# Altium footprint library Freezer_Power.PcbLib: 40 footprints (part 2 of 3)
Each footprint in its own frame and in the unit in brackets; x right, y up, seen from the top. Pads: shape width x height; smd on the part's side, far side on the other; paste and mask are expansions set on the pad; w line width, h text height; cw(c..) or ccw(c..) is an arc to the next point about the centre after c.
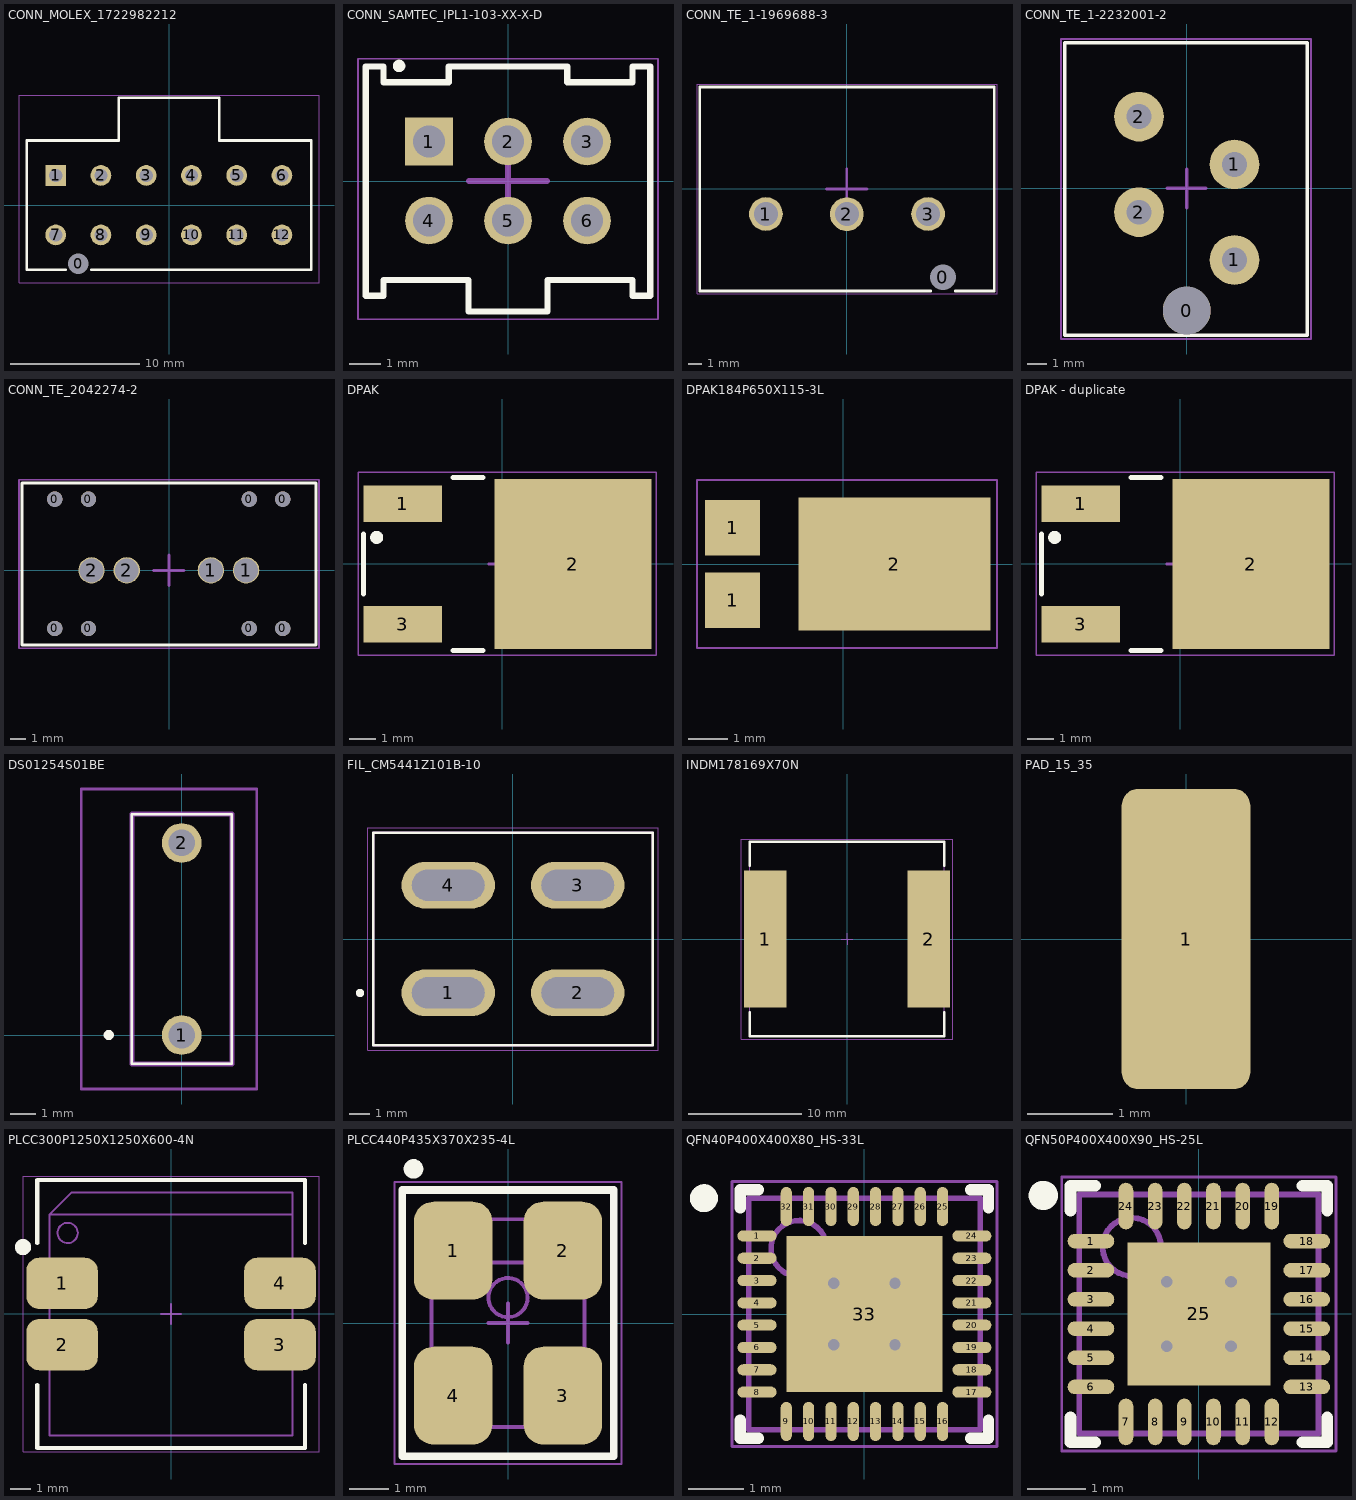
[diagram p1: the footprints below, top view; thin cyan lines are the x and y axes]

## CONN_MOLEX_1722982212 [mm]
height 14
pads (13):
  round 1.5 hole 1.6 unplated: 0(-7.013,-4.53)
  rect 1.6x1.6 hole 1.02: 1(-8.763,2.3)
  round 1.6 hole 1.02: 2(-5.263,2.3) 3(-1.763,2.3) 4(1.737,2.3) 5(5.237,2.3) 6(8.737,2.3) 7(-8.763,-2.3) 8(-5.263,-2.3) 9(-1.763,-2.3) 10(1.737,-2.3) 11(5.237,-2.3) 12(8.737,-2.3)
Top Overlay:
  lines w0.2: -8,-5 -11,-5 -11,5 -3.9,5 -3.9,8.31 ; -6,-5 11,-5 11,5 3.9,5 3.9,8.31 ; -3.9,8.31 3.9,8.31 ; -3.9,8.31 3.9,8.31
Top Courtyard:
  lines w0.05: -11.6,-6 11.6,-6 11.6,8.5 -11.6,8.5 -11.6,-6
Top Designator:
  text ".Designator" at -2.265,-0.239 h1
3D body "1722982212.stp": height 14.01, standoff -3.19, extent -11.512,-5.932 11.488,7.978

## CONN_SAMTEC_IPL1-103-XX-X-D [mm]
height 8.13
pads (6):
  rect 1.53x1.53 hole 1.02: 1(-2.54,1.27)
  round 1.53 hole 1.02: 2(0,1.27) 3(2.54,1.27) 4(-2.54,-1.27) 5(0,-1.27) 6(2.54,-1.27)
Top Overlay:
  circle w0.2: c-3.5,3.7 r0.1
  lines w0.2: -4.57,-3.685 -4.57,3.685 -4,3.685 -4,3.175 -1.905,3.175 -1.905,3.685 1.905,3.685 1.905,3.175 4,3.175 4,3.685 4.57,3.685 4.57,-3.685 4,-3.685 4,-3.175 1.27,-3.175 1.27,-4.195 -1.27,-4.195 -1.27,-3.175 -4,-3.175 -4,-3.685 -4.57,-3.685
Top Component Center:
  lines w0.2: -1.25,0 1.25,0 ; 0,-1.25 0,1.25
Top Courtyard:
  lines w0.05: -4.82,-4.445 -4.82,3.935 4.82,3.935 4.82,-4.445 -4.82,-4.445
  lines w0.2: -1.25,0 1.25,0 ; 0,-1.25 0,1.25
Top Designator:
  text ".Designator" at -2.265,-0.239 h1
3D body "IPL1-103-01-L-D-K.stp": height 8.14, standoff -3.04, extent -4.572,-4.191 4.572,3.683

## CONN_TE_1-1969688-3 [mm]
height 18.3
pads (4):
  round 1.8 hole 1.9 unplated mask+0.102: 0(7.113,-6.54)
  round 2.5 hole 1.78: 1(-5.987,-1.85) 2(0,-1.863) 3(6.013,-1.85)
Top Overlay:
  lines w0.2: 6.213,-7.55 -10.887,-7.55 -10.887,7.55 10.913,7.55 10.913,-7.55 8.013,-7.55
Top Component Center:
  lines w0.2: -1.5,0 1.5,0 ; 0,-1.5 0,1.5
Top Courtyard:
  lines w0.05: -11.087,-7.75 11.113,-7.75 11.113,7.75 -11.087,7.75 -11.087,-7.75
  lines w0.2: -1.5,0 1.5,0 ; 0,-1.5 0,1.5
Top Designator:
  lines w0.2: -1.5,0 1.5,0 ; 0,-1.5 0,1.5
  text ".Designator" at -2.252,-0.226 h1
3D body "c-1-1969688-3-b-3d.stp": height 18.31, standoff -3.32, extent -10.837,-7.465 10.863,7.485

## CONN_TE_1-2232001-2 [mm]
pads (5):
  round 2.5 hole 2.5 unplated: 0(-0.013,-6.413)
  round 2.6 hole 1.3: 1(2.487,-3.763) 1(2.487,1.237) 2(-2.513,-1.263) 2(-2.513,3.737)
Top Overlay:
  lines w0.2: -6.4,-7.7 6.3,-7.7 6.3,7.6 -6.4,7.6 -6.4,-7.7
Top Component Center:
  lines w0.2: -1.013,-0.013 0.987,-0.013 ; -0.013,-1.013 -0.013,0.987
Top Courtyard:
  lines w0.1: -6.6,-7.9 6.5,-7.9 6.5,7.8 -6.6,7.8 -6.6,-7.9
Top Designator:
  text ".Designator" at -2.265,-0.239 h1
3D body "1-2232001-2.stp": height 12.81, standoff -3.49, extent -6.163,-7.513 6.137,7.437

## CONN_TE_2042274-2 [mm]
height 11.1
pads (12):
  round 1 hole 1 unplated: 0(-7.46,-3.813) 0(-7.46,4.637) 0(-5.266,4.637) 0(-5.265,-3.813) 0(5.24,4.637) 0(5.24,-3.813) 0(7.434,-3.813) 0(7.434,4.637)
  round 1.72 hole 1.56: 1(2.737,-0.013) 1(5.037,-0.013) 2(-5.063,-0.013) 2(-2.763,-0.013)
Top Overlay:
  lines w0.2: -9.6,-4.9 9.6,-4.9 9.6,5.7 -9.6,5.7 -9.6,-4.9
Top Component Center:
  lines w0.2: -1.013,-0.013 0.987,-0.013 ; -0.013,-1.013 -0.013,0.987
Top Courtyard:
  lines w0.1: -9.8,-5.1 9.8,-5.1 9.8,5.9 -9.8,5.9 -9.8,-5.1
Top Designator:
  text ".Designator" at -2.265,-0.239 h1
3D body "c-2042274-2-b-3d.stp": height 11.16, standoff -2.89, extent -9.463,-4.737 9.437,5.562

## DPAK [mm]
pads (3):
  rect 3x1.4 smd: 1(-3.793,2.287) 3(-3.793,-2.313)
  rect 6x6.5 smd: 2(2.707,-0.013)
Top Overlay:
  circle w0.25: c-4.786,1.003 r0.125
  lines w0.2: -5.294,-1.156 -5.294,1.13 ; -1.865,-3.315 -0.722,-3.315 ; -1.865,3.289 -0.722,3.289
Top Component Center:
  lines w0.1: -0.513,-0.013 0.487,-0.013 ; -0.013,-0.513 -0.013,0.487
Top Courtyard:
  lines w0.05: -5.5,-3.5 -5.5,3.5 5.9,3.5 5.9,-3.5 -5.5,-3.5
  lines w0.1: -0.513,-0.013 0.487,-0.013 ; -0.013,-0.513 -0.013,0.487
Top Designator:
  text ".Designator" at -2.265,-0.239 h1
Mechanical 15:
  lines w0.1: 2.207,-0.013 3.207,-0.013 ; 2.707,-0.513 2.707,0.487
3D body "TO-252AA.stp": height 2.41, standoff 0.01, extent -5.033,-3.315 5.367,3.362

## DPAK184P650X115-3L [mm] "TO, 3-Pads, Body 5.83x5.39mm (max), IPC High Density"
height 1.15
pads (3):
  rect 1.4x1.4 smd: 1(-2.8,-0.92) 1(-2.8,0.92)
  rect 4.86x3.36 smd: 2(1.3,0)
Top Courtyard:
  lines w0.05: -3.7,-2.125 3.9,-2.125 3.9,2.125 -3.7,2.125 -3.7,-2.125
  lines w0.1: -0.5,0 0.5,0 ; 0,-0.5 0,0.5
Top Designator:
  text ".Designator" at -2.252,-0.226 h1
3D body "DPAK184P650X115-3L.step": height 1.15, standoff 0, extent -3.05,-2.025 3.2,2.025

## DPAK - duplicate [mm]
pads (3):
  rect 3x1.4 smd: 1(-3.793,2.287) 3(-3.793,-2.313)
  rect 6x6.5 smd: 2(2.707,-0.013)
Top Overlay:
  circle w0.25: c-4.786,1.003 r0.125
  lines w0.2: -5.294,-1.156 -5.294,1.13 ; -1.865,-3.315 -0.722,-3.315 ; -1.865,3.289 -0.722,3.289
Top Component Center:
  lines w0.1: -0.513,-0.013 0.487,-0.013 ; -0.013,-0.513 -0.013,0.487
Top Courtyard:
  lines w0.05: -5.5,-3.5 5.9,-3.5 5.9,3.5 -5.5,3.5 -5.5,-3.5
  lines w0.1: -0.513,-0.013 0.487,-0.013 ; -0.013,-0.513 -0.013,0.487
Top Designator:
  text ".Designator" at -2.265,-0.239 h1
Mechanical 15:
  lines w0.1: 2.207,-0.013 3.207,-0.013 ; 2.707,-0.513 2.707,0.487
3D body "TO-252AA.stp": height 2.41, standoff 0.01, extent -5.033,-3.315 5.367,3.362

## DS01254S01BE [mm]
pads (2):
  round 1.575 hole 1.05: 1(0,0) 2(0,7.62)
Top Overlay:
  lines w0.1: -1.98,-1.14 -1.98,8.76 1.98,8.76 1.98,-1.14 -1.98,-1.14
  lines w0.2: -3,0 cw(c-2.9,0) -2.8,0 cw(c-2.9,0) -3,0
Top 3D Body:
  lines w0.2: -1.98,-1.14 -1.98,8.76 1.98,8.76 1.98,-1.14 -1.98,-1.14
Mechanical 15:
  lines w0.1: -4,-2.14 -4,9.76 ; -4,-2.14 2.98,-2.14 ; -4,-2.14 -4,9.76 ; -4,-2.14 2.98,-2.14 ; -4,9.76 2.98,9.76 ; -4,9.76 2.98,9.76 ; 2.98,-2.14 2.98,9.76 ; 2.98,-2.14 2.98,9.76
3D body "DS01-254-S-01BE.stp": height 6.53, standoff -3.03, extent -2.005,-1.1 1.955,8.8

## FIL_CM5441Z101B-10 [mm] "Common mode choke 38.5 x 26.5 x 35 with 20.5 x 24.5 lead spacing and 1.6mm wire diameter."
height 27.5
pads (4):
  oval 4.58x2.29 hole 1.52 slot 3.56 at 0 deg: 1(-3.175,-2.64) 2(3.175,-2.64) 3(3.175,2.64) 4(-3.175,2.64)
Top Overlay:
  circle w0.2: c-7.5,-2.64 r0.1
  lines w0.127: -6.86,-5.205 -6.86,5.205 6.86,5.205 6.86,-5.205 -6.86,-5.205
Top 3D Body:
  circle w0.2: c-7.5,-2.64 r0.1
  lines w0.127: -6.86,-5.205 -6.86,5.205 6.86,5.205 6.86,-5.205 -6.86,-5.205
Mechanical 15:
  lines w0.05: -7.11,-5.455 7.11,-5.455 7.11,5.455 -7.11,5.455 -7.11,-5.455
3D body "step_temp.STEP": height 10.77, standoff -3.38, extent -6.86,-5.205 6.86,5.205

## INDM178169X70N [mm] "Molded Inductor, 2-Leads, Body 17.80x16.90mm, IPC Medium Density"
height 7
pads (2):
  rect 3.75x12.1 smd: 1(-7.225,0) 2(7.225,0)
Top Overlay:
  lines w0.2: -8.6,-6.45 -8.6,-8.6 8.6,-8.6 8.6,-6.45 ; -8.6,6.45 -8.6,8.6 8.6,8.6 8.6,6.45
Top Assembly:
  lines w0.1: -8.6,-8.6 -8.6,8.6 8.6,8.6 8.6,-8.6 -8.6,-8.6
Top Component Center:
  lines w0.1: -0.5,0 0.5,0 ; 0,-0.5 0,0.5
Top Courtyard:
  lines w0.05: -9.35,-8.85 -9.35,8.85 9.35,8.85 9.35,-8.85 -9.35,-8.85
  lines w0.1: -0.5,0 0.5,0 ; 0,-0.5 0,0.5
Top Designator:
  text ".Designator" at -15.395,-2.399 h1
3D body "INDM169169X70N.step": height 7, standoff 0, extent -8.82,-8.6 8.82,8.6

## PAD_15_35 [mm] "Solder pad 1.5mmx3.5mm"
height 27.5
pads (1):
  rrect25% 1.5x3.5 smd mask+0.051: 1(0,0)
3D body: height 0.05, standoff 0, extent -0.75,-1.751 0.75,1.75

## PLCC300P1250X1250X600-4N [mm] "Leaded Chip Carrier, 4-Leads, Body 12.50x12.50mm, Pitch 3.000mm, IPC Medium Density"
height 6
pads (4):
  rrect50% 3.53x2.54 smd: 1(-5.375,1.51) 2(-5.375,-1.51) 3(5.375,-1.51) 4(5.375,1.51)
Top Overlay:
  circle w0.4: c-7.3,3.3 r0.2
  lines w0.2: -6.6,-3.5 -6.6,-6.6 6.6,-6.6 6.6,-3.5 ; -6.6,3.5 -6.6,6.6 6.6,6.6 6.6,3.5
Top Component Center:
  lines w0.1: -0.5,0 0.5,0 ; 0,-0.5 0,0.5
Top Courtyard:
  lines w0.05: -7.3,-6.8 -7.3,6.8 7.3,6.8 7.3,-6.8 -7.3,-6.8
  lines w0.1: -0.5,0 0.5,0 ; 0,-0.5 0,0.5
Top Designator:
  text ".Designator" at -10.297,-1.633 h1
Top 3D Body:
  circle w0.1: c-5.1,4 r0.5
  lines w0.1: 6,4.9 -6,4.9 ; -6,4.9 -6,-6 6,-6 6,6 -4.9,6 -6,4.9
3D body "PLCC300P1250X1250X600-6N.step": height 6, standoff 0, extent -6.45,-6.45 6.45,6.45

## PLCC440P435X370X235-4L [mm] "Leaded Chip Carrier, 4-Leads, Body 4.35x3.70mm, Pitch 4.400mm, IPC High Density"
height 2.35
pads (4):
  rrect50% 2x2.5 smd: 1(-1.4,1.852) 2(1.4,1.852) 3(1.4,-1.852) 4(-1.4,-1.852)
Top Overlay:
  circle w0.25: c-2.413,3.937 r0.125
  lines w0.2: -2.7,-3.4 -2.7,3.4 2.7,3.4 2.7,-3.4 -2.7,-3.4
Top Courtyard:
  lines w0.05: -2.9,-3.6 2.9,-3.6 2.9,3.6 -2.9,3.6 -2.9,-3.6
  lines w0.1: -0.5,0 0.5,0 ; 0,-0.5 0,0.5
Top Designator:
  text ".Designator" at -1.173,7.544 h1
Top 3D Body:
  circle w0.1: c0,0.65 r0.5
  lines w0.1: 1.95,1.55 -1.95,1.55 ; -1.95,1.55 -0.85,2.65 1.95,2.65 1.95,-2.65 -1.95,-2.65 -1.95,1.55
3D body "PLCC440P435X370X235-4L.step": height 2.35, standoff 0, extent -2.375,-2.65 2.375,2.65

## QFN40P400X400X80_HS-33L [mm] "QFN, 32-Leads, Body 4.00x4.00mm, Pitch 0.40mm, Thermal Pad 2.80x2.80mm, IPC High Density"
height 0.8
pads (33):
  oval 0.7x0.2 smd mask+0.051: 1(-1.925,1.4) 2(-1.925,1) 3(-1.925,0.6) 4(-1.925,0.2) 5(-1.925,-0.2) 6(-1.925,-0.6) 7(-1.925,-1) 8(-1.925,-1.4) 17(1.925,-1.4) 18(1.925,-1) 19(1.925,-0.6) 20(1.925,-0.2) 21(1.925,0.2) 22(1.925,0.6) 23(1.925,1) 24(1.925,1.4)
  oval 0.2x0.7 smd mask+0.051: 9(-1.4,-1.925) 10(-1,-1.925) 11(-0.6,-1.925) 12(-0.2,-1.925) 13(0.2,-1.925) 14(0.6,-1.925) 15(1,-1.925) 16(1.4,-1.925) 25(1.4,1.925) 26(1,1.925) 27(0.6,1.925) 28(0.2,1.925) 29(-0.2,1.925) 30(-0.6,1.925) 31(-1,1.925) 32(-1.4,1.925)
  rect 2.8x2.8 smd mask+0.051: 33(0,0)
via 0.55,-0.55 diameter 0.5 hole 0.2
via -0.55,-0.55 diameter 0.5 hole 0.2
via 0.55,0.55 diameter 0.5 hole 0.2
via -0.55,0.55 diameter 0.5 hole 0.2
Top Overlay:
  circle w0.25: c-2.875,2.075 r0.125
  lines w0.2: -2.225,-1.9 -2.225,-2.225 -1.9,-2.225 ; -2.225,1.9 -2.225,2.225 -1.9,2.225 ; 1.9,-2.225 2.225,-2.225 2.225,-1.9 ; 1.9,2.225 2.225,2.225 2.225,1.9
Top Assembly:
  circle w0.1: c-1.175,1.175 r0.5
  lines w0.1: -2.075,-2.075 2.075,-2.075 2.075,2.075 -2.075,2.075 -2.075,-2.075
Top Component Center:
  lines w0.1: -0.5,0 0.5,0 ; 0,-0.5 0,0.5
Top Courtyard:
  lines w0.05: -2.375,-2.375 2.375,-2.375 2.375,2.375 -2.375,2.375 -2.375,-2.375
  lines w0.1: -0.5,0 0.5,0 ; 0,-0.5 0,0.5
Top Designator:
  text ".Designator" at -1.998,-1.8 h1
3D body "QFN40P400X400X80_HS-33L.step": height 0.8, standoff 0, extent -2.076,-2.076 2.076,2.076

## QFN50P400X400X90_HS-25L [mm] "QFN, 24-Leads, Body 4.00x4.00mm, Pitch 0.50mm, Thermal Pad 2.45x2.45mm, IPC High Density"
height 0.9
pads (25):
  oval 0.8x0.25 smd mask+0.051: 1(-1.85,1.25) 2(-1.85,0.75) 3(-1.85,0.25) 4(-1.85,-0.25) 5(-1.85,-0.75) 6(-1.85,-1.25) 13(1.85,-1.25) 14(1.85,-0.75) 15(1.85,-0.25) 16(1.85,0.25) 17(1.85,0.75) 18(1.85,1.25)
  oval 0.25x0.8 smd mask+0.051: 7(-1.25,-1.85) 8(-0.75,-1.85) 9(-0.25,-1.85) 10(0.25,-1.85) 11(0.75,-1.85) 12(1.25,-1.85) 19(1.25,1.85) 20(0.75,1.85) 21(0.25,1.85) 22(-0.25,1.85) 23(-0.75,1.85) 24(-1.25,1.85)
  rect 2.45x2.45 smd mask+0.051: 25(0,0)
via -0.55,0.55 diameter 0.5 hole 0.2
via 0.55,0.55 diameter 0.5 hole 0.2
via -0.55,-0.55 diameter 0.5 hole 0.2
via 0.55,-0.55 diameter 0.5 hole 0.2
Top Overlay:
  circle w0.25: c-2.667,2.032 r0.125
  lines w0.2: -2.2,-1.775 -2.2,-2.2 -1.775,-2.2 ; -2.2,1.775 -2.2,2.2 -1.775,2.2 ; 1.775,-2.2 2.2,-2.2 2.2,-1.775 ; 1.775,2.2 2.2,2.2 2.2,1.775
Top Assembly:
  circle w0.1: c-1.15,1.15 r0.5
  circle w0.1: c-1.15,1.15 r0.5
  lines w0.1: -2.05,-2.05 -2.05,2.05 ; -2.05,-2.05 2.05,-2.05 ; -2.05,-2.05 -2.05,2.05 ; -2.05,-2.05 2.05,-2.05 ; -2.05,2.05 2.05,2.05 ; -2.05,2.05 2.05,2.05 ; 2.05,-2.05 2.05,2.05 ; 2.05,-2.05 2.05,2.05
Top Component Center:
  lines w0.1: -0.5,0 0.5,0 ; 0,-0.5 0,0.5
Top Courtyard:
  lines w0.05: -2.35,-2.35 2.35,-2.35 2.35,2.35 -2.35,2.35 -2.35,-2.35
  lines w0.1: -0.5,0 0.5,0 ; 0,-0.5 0,0.5
Top Designator:
  text ".Designator" at -2.252,-0.226 h1
3D body "QFN50P400X400X90_HS-25L.step": height 0.9, standoff 0, extent -2.051,-2.051 2.051,2.051